# Altium integrated library LQG18HN2N2S00D.IntLib: 1 symbol
Pins are listed as number, name and electrical type; pins without a type are passive.

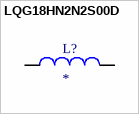
[diagram p0: symbol LQG18HN2N2S00D]

## LQG18HN2N2S00D
designator L?
2.2 NH +-.3NH; MP: LQG18HN2N2S00D; Value: *; Availability: Unavailable; Price: None; Package: None
footprint INDC1608X95N
pins: 1, 2